# Altium schematic symbol library AD7843.SchLib: 1 symbol
Pins are listed as number, name and electrical type; pins without a type are passive.

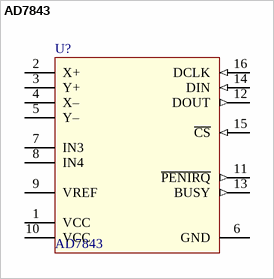
[diagram p0: symbol AD7843]

## AD7843
designator U?
4-Wire Resistive Touch Screen Controller; PackageReference: PW016; PackageDescription: Shrink Small Outline; 16 Leads; Body Width 4.4 mm; Pitch 0.65 mm; ComponentLink2URL: http://www.mct.net/download/ad/ad7843.pdf
footprint TSOP65P640-16AN (TSOP, 16-Leads, Body 5x4.4mm, Pitch 0.65mm, IPC Medium Density)
pins: 1 VCC (power), 2 X+, 3 Y+, 4 X–, 5 Y–, 6 GND (power), 7 IN3, 8 IN4, 9 VREF (power), 10 VCC (power), 11 ~{PENIRQ} (out), 12 DOUT (out), 13 BUSY (out), 14 DIN (in), 15 ~{CS} (in), 16 DCLK (in)